# Altium footprint library Relay_THT.PcbLib: 117 footprints (part 3 of 8)
Each footprint in its own frame and in the unit in brackets; x right, y up, seen from the top. Pads: shape width x height; smd on the part's side, far side on the other; paste and mask are expansions set on the pad; w line width, h text height; cw(c..) or ccw(c..) is an arc to the next point about the centre after c.
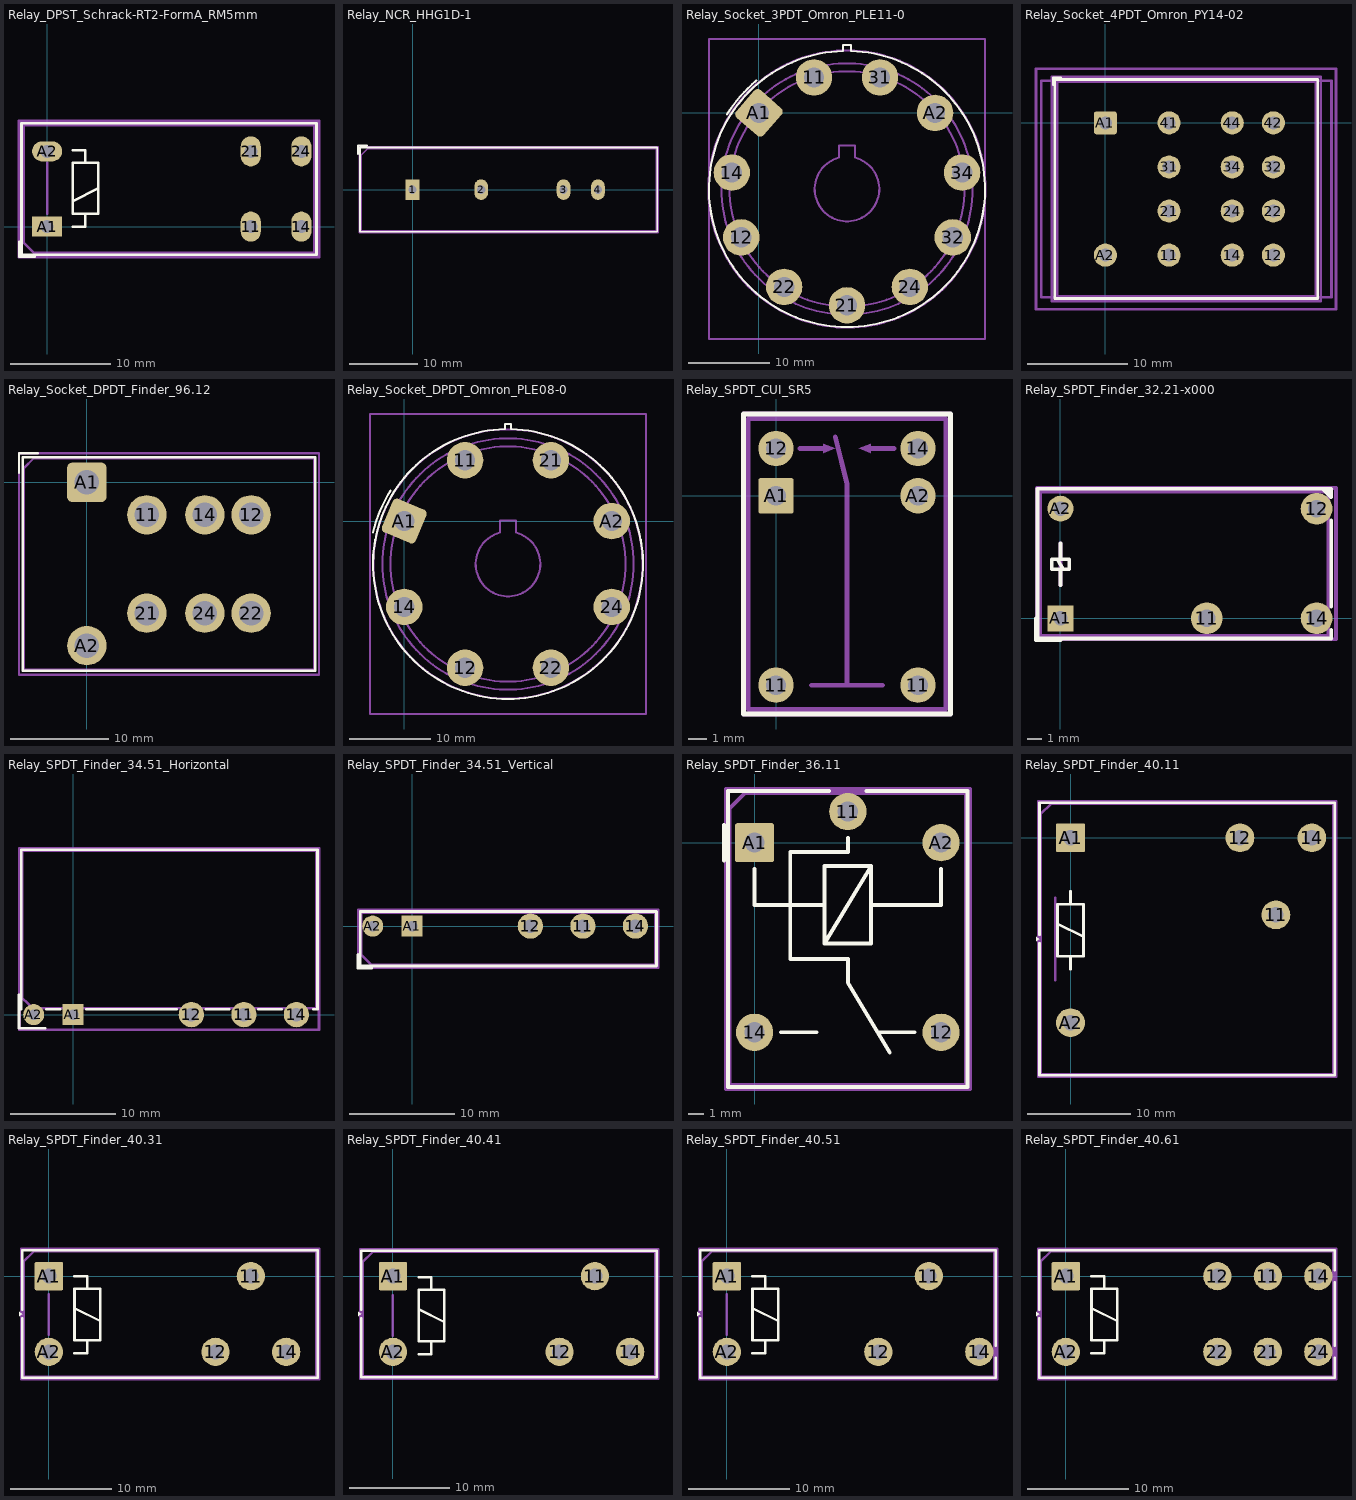
[diagram p2: the footprints below, top view; thin cyan lines are the x and y axes]

## Relay_DPST_Schrack-RT2-FormA_RM5mm [mm]
pads (6):
  rrect100% 2x3 hole 1.3: 11(20.3,0) 14(25.34,0) 21(20.3,7.5) 24(25.34,7.5)
  rect 3x2 hole 1.3: A1(0,0)
  rrect100% 3x2 hole 1.3: A2(0,7.5)
F.SilkS:
  lines w0.254: -2.75,-1.5 -2.75,-3 -1.25,-3 ; 2.54,0 3.81,0 3.81,1.27 ; 2.54,2.54 5.08,3.81 ; 2.54,7.62 3.81,7.62 3.81,6.35 ; 3.81,1.27 2.54,1.27 2.54,6.35 5.08,6.35 5.08,1.27 3.81,1.27 ; -2.55,-2.8 -2.55,10.3 26.85,10.3 26.85,-2.8 -2.55,-2.8
F.Fab:
  lines w0.254: 0,1.27 0,6.35 ; -2.35,-1.6 -2.35,10.1 26.65,10.1 26.65,-2.6 -1.35,-2.6 -2.35,-1.6
  text "'.Designator'" at 8.018,2.97 h1
F.CrtYd:
  lines w0.254: -2.8,-3.05 -2.8,10.55 27.1,10.55 27.1,-3.05 -2.8,-3.05
3D body "Relay_DPST_Schrack-RT2-FormA_RM5mm.step": height 15.7, standoff -5.3, extent -2.35,-2.6 26.65,10.1

## Relay_NCR_HHG1D-1 [mm]
pads (4):
  rect 2x3 hole 1.2: 1(0,0)
  rrect100% 2x3 hole 1.2: 2(10,0) 3(22,0) 4(27,0)
F.SilkS:
  lines w0.254: -7.94,5.14 -7.94,6.44 -6.64,6.44 ; -7.64,-6.14 35.64,-6.14 35.64,6.14 -7.64,6.14 -7.64,-6.14
F.Fab:
  lines w0.254: -7.5,-6 35.5,-6 35.5,6 -6.5,6 -7.5,5 -7.5,-6
  text "'.Designator'" at 9.453,-0.84 h1
F.CrtYd:
  lines w0.254: -7.75,-6.25 35.75,-6.25 35.75,6.25 -7.75,6.25 -7.75,-6.25

## Relay_Socket_3PDT_Omron_PLE11-0 [mm]
pads (11):
  round 4.5 hole 2.5: 11(6.788,4.378) 12(-2.193,-15.35) 14(-3.341,-7.351) 21(10.857,-23.733) 22(3.104,-21.458) 24(18.611,-21.458) 31(14.927,4.378) 32(23.908,-15.35) 34(25.056,-7.351) A2(21.715,0)
  rrect25% 4.5x4.5 hole 2.5 rot 138.8: A1(0,0)
F.SilkS:
  lines w0.254: -3.943,-0.183 cw(c10.858,-9.383) -0.318,3.988 ; 10.349,7.635 10.349,8.397 11.365,8.397 11.365,7.635 cw(c10.857,-9.383) 10.349,7.635
F.Fab:
  circle w0.254: c10.857,-9.383 r14.5
  text "'.Designator'" at 6.811,-10.223 h1
F.CrtYd:
  circle w0.254: c10.857,-9.383 r17.1
Dwgs.User:
  lines w0.254: 9.858,-5.522 9.858,-4.022 11.857,-4.022 11.857,-5.522 cw(c10.857,-9.383) 9.857,-5.522
Cmts.User:
  circle w0.254: c10.857,-9.383 r15.5
  lines w0.254: -6.142,-27.883 -6.142,9.117 27.858,9.117 27.858,-27.883 -6.142,-27.883
  text "Panel cutout" at 15.711,1.423 h1
  text "34x37mm industrial relay area" at 27.218,-26.733 h1

## Relay_Socket_4PDT_Omron_PY14-02 [mm]
pads (14):
  round 2.3 hole 1.3: 11(6.35,-13.2) 12(16.75,-13.2) 14(12.65,-13.2) 21(6.35,-8.8) 22(16.75,-8.8) 24(12.65,-8.8) 31(6.35,-4.4) 32(16.75,-4.4) 34(12.65,-4.4) 41(6.35,0) 42(16.75,0) 44(12.65,0) A2(0,-13.2)
  rrect25% 2.3x2.3 hole 1.3: A1(0,0)
F.SilkS:
  lines w0.254: -5.2,3.789 -5.2,4.5 -4.438,4.5 ; -5.031,-17.522 21.182,-17.522 21.182,4.322 -5.031,4.322 -5.031,-17.522
F.Fab:
  lines w0.254: -4.825,-17.3 20.975,-17.3 20.975,4.1 -4.825,4.1 -4.825,-17.3
  text "'.Designator'" at 3.953,-7.44 h1
F.CrtYd:
  lines w0.254: -5.325,-17.8 21.475,-17.8 21.475,4.6 -5.325,4.6 -5.325,-17.8
Cmts.User:
  lines w0.254: -6.92,-18.6 23,-18.6 23,5.4 -6.92,5.4 -6.92,-18.6 ; -6.4,-17.4 -6.4,4.2 22.55,4.2 22.55,-17.4 -6.4,-17.4
  text "Panel cutout" at -5.75,-7.75 h1
  text "29x29,9mm industrial relay area" at -4.65,-19.371 h0.9

## Relay_Socket_DPDT_Finder_96.12 [mm]
pads (8):
  round 4 hole 2.5: 11(6.1,-3.3) 12(16.7,-3.3) 14(12,-3.3) 21(6.1,-13.3) 22(16.7,-13.3) 24(12,-13.3) A2(0,-16.6)
  rrect25% 4x4 hole 2.5: A1(0,0)
F.SilkS:
  lines w0.254: -6.9,1 -6.9,2.95 -5,2.95 ; -6.52,2.55 -6.52,-19.17 23.22,-19.17 23.22,2.57 -6.52,2.57
F.Fab:
  lines w0.254: -6.4,-19.05 -6.4,1.45 -5.4,2.45 23.1,2.45 23.1,-19.05 -6.4,-19.05
  text "'.Designator'" at 8.018,-9.24 h1
F.CrtYd:
  lines w0.254: -6.9,-19.55 -6.9,2.95 23.6,2.95 23.6,-19.55 -6.9,-19.55

## Relay_Socket_DPDT_Omron_PLE08-0 [mm]
pads (8):
  round 4.5 hole 2.5: 11(7.496,7.496) 12(7.496,-18.096) 14(0,-10.6) 21(18.096,7.496) 22(18.096,-18.096) 24(25.591,-10.6) A2(25.591,0)
  rrect25% 4.5x4.5 hole 2.5 rot 157.5: A1(0,0)
F.SilkS:
  lines w0.254: -3.834,-1.39 cw(c12.796,-5.3) -1.698,3.743 ; 12.415,11.337 12.415,11.972 13.177,11.972 13.177,11.337 cw(c12.796,-5.3) 12.415,11.337
F.Fab:
  circle w0.254: c12.796,-5.3 r14.5
  text "'.Designator'" at 8.749,-6.14 h1
F.CrtYd:
  circle w0.254: c12.796,-5.3 r16.6
Dwgs.User:
  lines w0.254: 11.796,-1.439 11.796,0.061 13.796,0.061 13.796,-1.439 cw(c12.796,-5.3) 11.796,-1.439
Cmts.User:
  circle w0.254: c12.796,-5.3 r15.5
  lines w0.254: -4.204,-23.8 -4.204,13.2 29.796,13.2 29.796,-23.8 -4.204,-23.8
  text "34x37mm industrial relay area" at 29.156,-22.65 h1
  text "31mm Dia for Panel cutout" at 23.246,3.626 h1

## Relay_SPDT_CUI_SR5 [mm]
pads (6):
  round 1.9 hole 1.05: 11(0,-10.16) 11(7.62,-10.16) 12(0,2.54) 14(7.62,2.54) A2(7.62,0)
  rrect13% 1.9x1.9 hole 1.05: A1(0,0)
F.SilkS:
  lines w0.254: -1.74,-11.71 9.36,-11.71 9.36,4.39 -1.74,4.39 -1.74,-11.71
F.Fab:
  lines w0.254: -1.49,-11.46 9.11,-11.46 9.11,4.14 -1.49,4.14 -1.49,-11.46
  text "'.Designator'" at 4.65,-7.707 h1
F.CrtYd:
  lines w0.254: -1.74,-11.71 9.36,-11.71 9.36,4.39 -1.74,4.39 -1.74,-11.71
Cmts.User:
  region: 5.08,2.29 4.445,2.54 5.08,2.79
  region: 3.175,2.54 2.54,2.29 2.54,2.79
  lines w0.254: 1.27,2.54 2.54,2.54 ; 1.905,-10.16 3.81,-10.16 ; 3.175,3.175 3.81,0.635 3.81,-10.16 ; 5.08,2.54 6.35,2.54 ; 5.715,-10.16 3.81,-10.16

## Relay_SPDT_Finder_32.21-x000 [mm]
pads (5):
  round 2.2 hole 1.2: 11(10.16,0) 12(17.78,7.62) 14(17.78,0)
  rect 1.8x1.8 hole 1: A1(0,0)
  round 1.8 hole 1: A2(0,7.62)
F.SilkS:
  lines w0.254: -1.7,0 -1.7,-1.5 0,-1.5 ; -0.2,4.1 0.2,3.4 ; 0,2.3 0,3.4 ; 0,4.1 0,5.2 ; 18.2,9 18.8,8.4 18.8,9 -1.6,9 -1.6,-1.4 18.8,-1.4 18.8,-0.8 ; 18.3,9 18.8,8.5 ; 18.6,9 18.8,8.8 ; 18.8,0.8 18.8,6.8 ; 18.8,8.6 18.4,9 18.8,8.7 ; -0.6,3.4 -0.6,4.1 0.6,4.1 0.6,3.4 -0.6,3.4
F.Fab:
  lines w0.254: 0,2.3 0,5.2 ; -1.4,-1.2 -1.4,8.8 18.6,8.8 18.6,-1.2 -1.4,-1.2
  text "'.Designator'" at 6.153,3.26 h1
F.CrtYd:
  lines w0.254: -1.65,-1.45 -1.65,9.05 19.13,9.05 19.13,-1.45 -1.65,-1.45
3D body "Relay_SPDT_Finder_32.21-x000.step": height 10.7, standoff -3, extent -1.4,-1.19 18.6,8.81

## Relay_SPDT_Finder_34.51_Horizontal [mm]
pads (5):
  round 2.4 hole 1.3: 11(16.25,0) 12(11.25,0) 14(21.25,0)
  rect 2x2 hole 1: A1(0,0)
  round 2 hole 1: A2(-3.75,0)
F.SilkS:
  lines w0.254: -5.15,1.9 -5.15,-1.3 -2.65,-1.3 ; -4.95,0.5 -4.95,15.7 23.25,15.7 23.25,0.5 22.85,0.5 ; -2.55,0.5 -1.25,0.5 ; 1.25,0.5 9.85,0.5 ; 12.65,0.5 14.85,0.5 ; 17.65,0.5 19.85,0.5
F.Fab:
  lines w0.254: -4.85,1.6 -4.85,15.6 23.15,15.6 23.15,0.6 -3.75,0.6 -4.85,1.6
  text "'.Designator'" at 5.803,6.56 h1
F.CrtYd:
  lines w0.254: -5.1,-1.45 -5.1,15.85 23.4,15.85 23.4,-1.45 -5.1,-1.45
3D body "Relay_SPDT_Finder_34.51_Horizontal.step": height 5, standoff -3, extent -4.85,-0.25 23.15,15.6

## Relay_SPDT_Finder_34.51_Vertical [mm]
pads (5):
  round 2.4 hole 1.3: 11(16.25,0) 12(11.25,0) 14(21.25,0)
  rect 2x2 hole 1: A1(0,0)
  round 2 hole 1: A2(-3.75,0)
F.SilkS:
  lines w0.254: -5.15,-2.7 -5.15,-4 -3.85,-4 ; -4.95,-3.8 -4.95,1.4 23.25,1.4 23.25,-3.8 -4.95,-3.8
F.Fab:
  lines w0.254: -4.85,-2.7 -4.85,1.3 23.15,1.3 23.15,-3.7 -3.85,-3.7 -4.85,-2.7
  text "'.Designator'" at 6.203,-3.24 h1
F.CrtYd:
  lines w0.254: -5.1,-3.95 -5.1,1.55 23.4,1.55 23.4,-3.95 -5.1,-3.95
3D body "Relay_SPDT_Finder_34.51_Vertical.step": height 15, standoff -3.5, extent -4.85,-3.7 23.15,1.3

## Relay_SPDT_Finder_36.11 [mm]
pads (5):
  round 2.4 hole 1.3: 11(6,2) 12(12,-12.2) 14(0,-12.2) A2(12,0)
  rrect10% 2.5x2.5 hole 1.3: A1(0,0)
F.SilkS:
  lines w0.254: -1.95,-1.15 -1.95,1.15 ; -1.71,-15.71 13.71,-15.71 13.71,3.31 7.2,3.31 ; -1.71,-15.7 -1.71,3.31 4.8,3.31 ; 0,-1.7 0,-4 4.5,-4 ; 1.7,-12.2 4,-12.2 ; 6,0.3 6,-0.6 2.3,-0.6 2.3,-7.5 6,-7.5 6,-9 8.7,-13.5 ; 7.5,-4 12,-4 12,-1.7 ; 8,-12.2 10.3,-12.2 ; 4.5,-6.5 4.5,-1.5 7.5,-1.5 ; 4.5,-6.5 7.5,-1.5 ; 4.5,-6.5 7.5,-6.5 7.5,-1.5
F.Fab:
  lines w0.254: -1.6,-15.6 -1.6,2.2 -0.6,3.2 13.6,3.2 13.6,-15.6 -1.6,-15.6
  text "'.Designator'" at 6.815,-10.247 h1
F.CrtYd:
  lines w0.254: -1.85,-15.85 -1.85,3.45 13.85,3.45 13.85,-15.85 -1.85,-15.85
3D body "Relay_SPDT_Finder_36.11.step": height 15.52, standoff -3.48, extent -1.6,-15.6 13.6,3.4

## Relay_SPDT_Finder_40.11 [mm]
pads (5):
  round 2.8 hole 1.5: 11(20,-7.5) 12(16.5,0) 14(23.5,0) A2(0,-18)
  rrect9% 2.8x2.8 hole 1.5: A1(0,0)
F.SilkS:
  region: -3.02,-9.85 -3.359,-10.05 -3.359,-9.65
  lines w0.254: -3.02,-10.25 -3.02,-23.12 25.72,-23.12 25.72,3.42 -3.02,3.42 -3.02,-9.45 ; -1.27,-8.365 1.27,-9.635 ; 0,-12.81 0,-11.54 ; 0,-5.19 0,-6.46 ; 0,-6.46 -1.27,-6.46 -1.27,-11.54 1.27,-11.54 1.27,-6.46 0,-6.46
F.Fab:
  lines w0.254: -1.5,-13.85 -1.5,-5.85 ; -2.9,-23 -2.9,2.3 -1.9,3.3 25.6,3.3 25.6,-23 -2.9,-23
  text "'.Designator'" at 7.303,-11.44 h1
F.CrtYd:
  lines w0.254: -3.15,-23.25 -3.15,3.55 25.85,3.55 25.85,-23.25 -3.15,-23.25
3D body "Relay_SPDT_Finder_40.11.step": height 5.3, standoff -12.7, extent -3.074,-21.093 25.426,5.207

## Relay_SPDT_Finder_40.31 [mm]
pads (5):
  round 2.8 hole 1.5: 11(20,0) 12(16.5,-7.5) 14(23.5,-7.5) A2(0,-7.5)
  rrect9% 2.8x2.8 hole 1.5: A1(0,0)
F.SilkS:
  region: -2.62,-3.75 -2.959,-3.95 -2.959,-3.55
  lines w0.254: -2.62,-4.15 -2.62,-10.07 26.62,-10.07 26.62,2.57 -2.62,2.57 -2.62,-3.35 ; 2.54,-7.62 3.81,-7.62 3.81,-6.35 ; 2.54,-3.175 5.08,-4.445 ; 2.54,0 3.81,0 3.81,-1.27 ; 3.81,-1.27 2.54,-1.27 2.54,-6.35 5.08,-6.35 5.08,-1.27 3.81,-1.27
F.Fab:
  lines w0.254: 0,-5.8 0,-1.8 ; -2.5,-9.95 -2.5,1.45 -1.5,2.45 26.5,2.45 26.5,-9.95 -2.5,-9.95
  text "'.Designator'" at 7.953,-4.59 h1
F.CrtYd:
  lines w0.254: -2.75,-10.2 -2.75,2.7 26.75,2.7 26.75,-10.2 -2.75,-10.2
3D body "Relay_SPDT_Finder_40.31.step": height 25, standoff -5.3, extent -3,-9.95 26,2.45

## Relay_SPDT_Finder_40.41 [mm]
pads (5):
  round 2.8 hole 1.5: 11(20,0) 12(16.5,-7.5) 14(23.5,-7.5) A2(0,-7.5)
  rrect9% 2.8x2.8 hole 1.5: A1(0,0)
F.SilkS:
  region: -3.12,-3.75 -3.459,-3.95 -3.459,-3.55
  lines w0.254: -3.12,-4.15 -3.12,-10.02 26.12,-10.02 26.12,2.52 -3.12,2.52 -3.12,-3.35 ; 2.54,-7.72 3.81,-7.72 3.81,-6.45 ; 2.54,-3.275 5.08,-4.545 ; 2.54,-0.1 3.81,-0.1 3.81,-1.37 ; 3.81,-1.37 2.54,-1.37 2.54,-6.45 5.08,-6.45 5.08,-1.37 3.81,-1.37
F.Fab:
  lines w0.254: 0,-5.9 0,-1.9 ; -3,-9.9 -3,1.4 -2,2.4 26,2.4 26,-9.9 -3,-9.9
  text "'.Designator'" at 7.453,-4.59 h1
F.CrtYd:
  lines w0.254: -3.25,-10.15 -3.25,2.65 26.25,2.65 26.25,-10.15 -3.25,-10.15
3D body "Relay_SPDT_Finder_40.41.step": height 26.3, standoff -5.3, extent -3,-10 25.5,3

## Relay_SPDT_Finder_40.51 [mm]
pads (5):
  round 2.8 hole 1.5: 11(20,0) 12(15,-7.5) 14(25,-7.5) A2(0,-7.5)
  rrect9% 2.8x2.8 hole 1.5: A1(0,0)
F.SilkS:
  region: -2.62,-3.75 -2.959,-3.95 -2.959,-3.55
  lines w0.254: -2.62,-4.15 -2.62,-10.07 26.62,-10.07 26.62,-8.1 ; -2.62,-3.35 -2.62,2.57 26.62,2.57 26.62,-6.9 ; 2.54,-7.62 3.81,-7.62 3.81,-6.35 ; 2.54,-3.175 5.08,-4.445 ; 2.54,0 3.81,0 3.81,-1.27 ; 3.81,-1.27 2.54,-1.27 2.54,-6.35 5.08,-6.35 5.08,-1.27 3.81,-1.27
F.Fab:
  lines w0.254: 0,-5.8 0,-1.8 ; -2.5,-9.95 -2.5,1.45 -1.5,2.45 26.5,2.45 26.5,-9.95 -2.5,-9.95
  text "'.Designator'" at 7.953,-4.59 h1
F.CrtYd:
  lines w0.254: -2.75,-10.2 -2.75,2.7 26.75,2.7 26.75,-10.2 -2.75,-10.2
3D body "Relay_SPDT_Finder_40.51.step": height 25, standoff -5.3, extent -3,-9.95 26,2.45

## Relay_SPDT_Finder_40.61 [mm]
pads (8):
  round 2.8 hole 1.5: 11(20,0) 12(15,0) 14(25,0) 21(20,-7.5) 22(15,-7.5) 24(25,-7.5) A2(0,-7.5)
  rrect9% 2.8x2.8 hole 1.5: A1(0,0)
F.SilkS:
  region: -2.62,-3.75 -2.959,-3.95 -2.959,-3.55
  lines w0.254: -2.62,-4.15 -2.62,-10.07 26.62,-10.07 26.62,-8.1 ; -2.62,-3.35 -2.62,2.57 26.62,2.57 26.62,0.6 ; 2.54,-7.62 3.81,-7.62 3.81,-6.35 ; 2.54,-3.175 5.08,-4.445 ; 2.54,0 3.81,0 3.81,-1.27 ; 26.62,-6.9 26.62,-0.6 ; 3.81,-1.27 5.08,-1.27 5.08,-6.35 2.54,-6.35 2.54,-1.27 3.81,-1.27
F.Fab:
  lines w0.254: -2.5,-9.95 26.5,-9.95 26.5,2.45 -1.5,2.45 -2.5,1.45 -2.5,-9.95
  text "'.Designator'" at 7.953,-4.59 h1
F.CrtYd:
  lines w0.254: -2.75,-10.2 26.75,-10.2 26.75,2.7 -2.75,2.7 -2.75,-10.2